# Altium integrated library SGP30.IntLib: 1 symbol
Pins are listed as number, name and electrical type; pins without a type are passive.

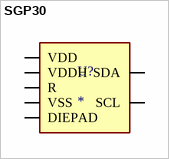
[diagram p0: symbol SGP30]

## SGP30
designator U?
SGP30, SHTC1 Air Quality, Humidity, Temperature Sensor Arduino Platform Evaluation Expansion Board; MF: Sensirion AG; SnapEDA_Link: https://www.snapeda.com/parts/SGP30/Sensirion/view-part/?ref=snap; Package: None; Value: *; MP: SGP30; Check_prices: https://www.snapeda.com/parts/SGP30/Sensirion/view-part/?ref=eda
footprint SGP30
pins: 1 VDD (io), 2 VSS (io), 3 SDA (io), 4 R (io), 5 VDDH (io), 6 SCL (io), DIEPAD (io)